# Altium schematic symbol library Inductor.SchLib: 59 symbols
Pins are listed as number, name and electrical type; pins without a type are passive.

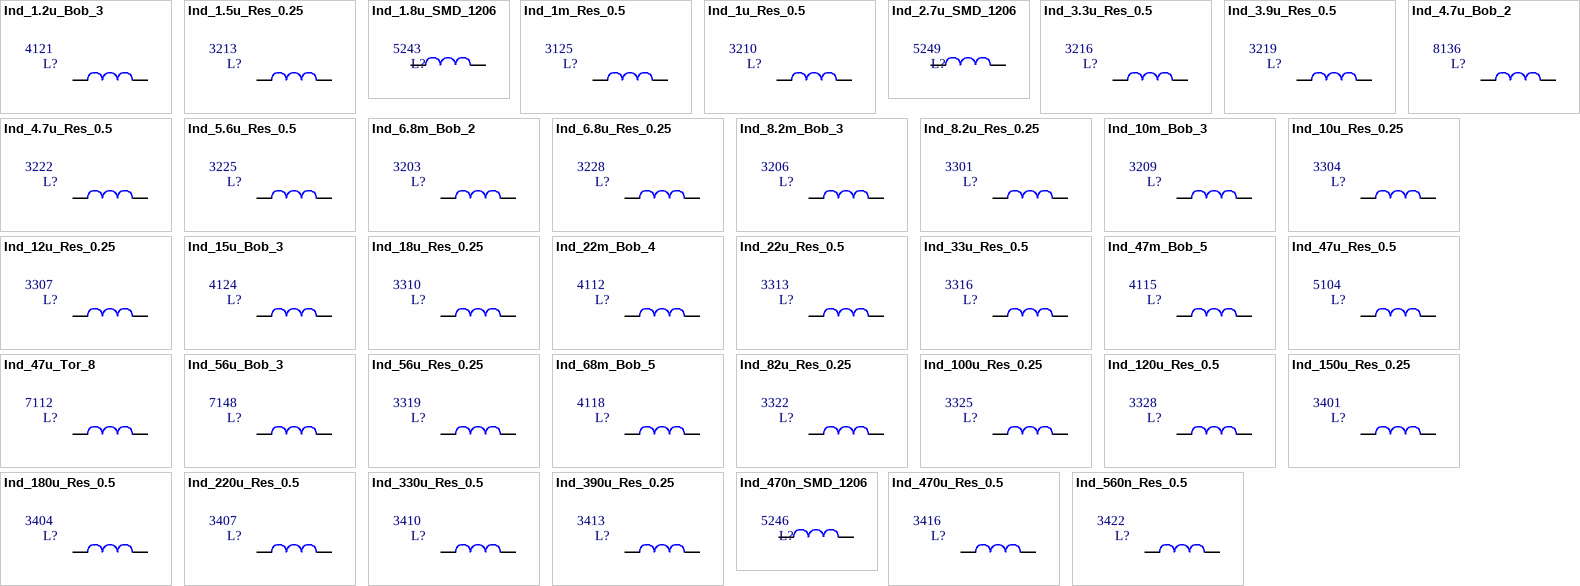
[diagram p0: symbols Ind_1.2u_Bob_3 to Ind_560n_Res_0.5]

## Ind_1.2u_Bob_3
designator L?, comment Inflow: 4121  (hidden comment: 1.2u'H, 3'A)
Inductor; Rating: Rating?; Type: Type?; Validation: NT; Value: 1.2u'H, 3'A; Package: Package?
footprint Inductor 10x12 (200 mils) (POWER INDUCTOR 10x12 (200 mils) DESIGNER ABBAS BASEREH)
pins: 1, 2

## Ind_1.5u_Res_0.25
designator L?, comment Inflow: 3213  (hidden comment: 1.5u'H, 0.25'A)
Inductor; Rating: Rating?; Type: Type?; Validation: NT; Value: 1.5u'H, 0.25'A; Package: Package?
footprint Res-(1/4)-Stand
footprint Inductor - 10uH (1/8)
pins: 1, 2

## Ind_1.8u_SMD_1206
designator L?, comment Inflow: 5243  (hidden comment: 1.8u'H)
Inductor; Rating: Rating?; Type: Type?; Validation: Valid; Value: 1.8u'H; Package: Package?
footprint IND1206 (Chip Inductor, 2-Leads, Body 3/20x1/60mm, IPC Medium Density DESIGNER:ABBAS BASEREH)
pins: 1, 2

## Ind_1m_Res_0.5
designator L?, comment Inflow: 3125  (hidden comment: 1m'H, 0.5A)
Inductor; Rating: Rating?; Type: Type?; Validation: NT; Value: 1m'H, 0.5A; Package: Package?
footprint Res-(1/4)-Stand
footprint Inductor - 10uH (1/8)
pins: 1, 2

## Ind_1u_Res_0.5
designator L?, comment Inflow: 3210  (hidden comment: 1u'H, 0.5'A)
Inductor; Rating: Rating?; Type: Type?; Validation: NT; Value: 1u'H, 0.5'A; Package: Package?
footprint Res-(1/4)-Stand
footprint Inductor - 10uH (1/8)
pins: 1, 2

## Ind_2.7u_SMD_1206
designator L?, comment Inflow: 5249  (hidden comment: 2.7u'H)
Inductor; Rating: Rating?; Type: Type?; Validation: Valid; Value: 2.7u'H; Package: Package?
footprint IND1206 (Chip Inductor, 2-Leads, Body 3/20x1/60mm, IPC Medium Density DESIGNER:ABBAS BASEREH)
pins: 1, 2

## Ind_3.3u_Res_0.5
designator L?, comment Inflow: 3216  (hidden comment: 3.3u'H, 0.5'A)
Inductor; Rating: Rating?; Type: Type?; Validation: NT; Value: 3.3u'H, 0.5'A; Package: Package?
footprint Res-(1/4)-Stand
footprint Inductor - 10uH (1/8)
pins: 1, 2

## Ind_3.9u_Res_0.5
designator L?, comment Inflow: 3219  (hidden comment: 3.9u'H, 0.5'A)
Inductor; Rating: Rating?; Type: Type?; Validation: NT; Value: 3.9u'H, 0.5'A; Package: Package?
footprint Res-(1/4)-Stand
footprint Inductor - 10uH (1/8)
pins: 1, 2

## Ind_4.7u_Bob_2
designator L?, comment Inflow: 8136  (hidden comment: 4.7u'H, 2'A)
Inductor; Rating: Rating?; Type: Type?; Validation: NT; Value: 4.7u'H, 2'A; Package: Package?
footprint Inductor 10x12 (200 mils) (POWER INDUCTOR 10x12 (200 mils) DESIGNER ABBAS BASEREH)
pins: 1, 2

## Ind_4.7u_Res_0.5
designator L?, comment Inflow: 3222  (hidden comment: 4.7u'H, 0.5'A)
Inductor; Rating: Rating?; Type: Type?; Validation: NT; Value: 4.7u'H, 0.5'A; Package: Package?
footprint Res-(1/4)-Stand
footprint Inductor - 10uH (1/8)
pins: 1, 2

## Ind_5.6u_Res_0.5
designator L?, comment Inflow: 3225  (hidden comment: 5.6u'H, 0.5'A)
Inductor; Rating: Rating?; Type: Type?; Validation: NT; Value: 5.6u'H, 0.5'A; Package: Package?
footprint Res-(1/4)-Stand
footprint Inductor - 10uH (1/8)
pins: 1, 2

## Ind_6.8m_Bob_2
designator L?, comment Inflow: 3203  (hidden comment: 6.8m'H, 2'A)
Inductor; Rating: Rating?; Type: Type?; Validation: NT; Value: 6.8m'H, 2'A; Package: Package?
footprint L'' (4.38 paye, 7.38mm qotr)
pins: 1, 2

## Ind_6.8u_Res_0.25
designator L?, comment Inflow: 3228  (hidden comment: 6.8u'H, 0.25'A)
Inductor; Rating: Rating?; Type: Type?; Validation: NT; Value: 6.8u'H, 0.25'A; Package: Package?
footprint Res-(1/4)-Stand
footprint Inductor - 10uH (1/8)
pins: 1, 2

## Ind_8.2m_Bob_3
designator L?, comment Inflow: 3206  (hidden comment: 8.2m'H, 3'A)
Inductor; Rating: Rating?; Type: Type?; Validation: NT; Value: 8.2m'H, 3'A; Package: Package?
footprint Inductor 10x12 (200 mils) (POWER INDUCTOR 10x12 (200 mils) DESIGNER ABBAS BASEREH)
pins: 1, 2

## Ind_8.2u_Res_0.25
designator L?, comment Inflow: 3301  (hidden comment: 8.2u'H, 0.25'A)
Inductor; Rating: Rating?; Type: Type?; Validation: NT; Value: 8.2u'H, 0.25'A; Package: Package?
footprint Res-(1/4)-Stand
footprint Inductor - 10uH (1/8)
pins: 1, 2

## Ind_10m_Bob_3
designator L?, comment Inflow: 3209  (hidden comment: 10m'H, 3'A)
Inductor; Rating: Rating?; Type: Type?; Validation: NT; Value: 10m'H, 3'A; Package: Package?
footprint Inductor 10x12 (200 mils) (POWER INDUCTOR 10x12 (200 mils) DESIGNER ABBAS BASEREH)
pins: 1, 2

## Ind_10u_Res_0.25
designator L?, comment Inflow: 3304  (hidden comment: 10u'H, 0.25'A)
Inductor; Rating: Rating?; Type: Type?; Validation: NT; Value: 10u'H, 0.25'A; Package: Package?
footprint Res-(1/4)-Stand
footprint Inductor - 10uH (1/8)
pins: 1, 2

## Ind_12u_Res_0.25
designator L?, comment Inflow: 3307  (hidden comment: 12u'H, 0.25'A)
Inductor; Rating: Rating?; Type: Type?; Validation: NT; Value: 12u'H, 0.25'A; Package: Package?
footprint Res-(1/4)-Stand
footprint Inductor - 10uH (1/8)
pins: 1, 2

## Ind_15u_Bob_3
designator L?, comment Inflow: 4124  (hidden comment: 15u'H, 3'A)
Inductor; Rating: Rating?; Type: Type?; Validation: NT; Value: 15u'H, 3'A; Package: Package?
footprint Inductor 10x12 (200 mils) (POWER INDUCTOR 10x12 (200 mils) DESIGNER ABBAS BASEREH)
pins: 1, 2

## Ind_18u_Res_0.25
designator L?, comment Inflow: 3310  (hidden comment: 18u'H, 0.25'A)
Inductor; Rating: Rating?; Type: Type?; Validation: NT; Value: 18u'H, 0.25'A; Package: Package?
footprint Res-(1/4)-Stand
footprint Inductor - 10uH (1/8)
pins: 1, 2

## Ind_22m_Bob_4
designator L?, comment Inflow: 4112  (hidden comment: 22m'H, 4'A)
Inductor; Rating: Rating?; Type: Type?; Validation: NT; Value: 22m'H, 4'A; Package: Package?
footprint Inductor 10x12 (200 mils) (POWER INDUCTOR 10x12 (200 mils) DESIGNER ABBAS BASEREH)
pins: 1, 2

## Ind_22u_Res_0.5
designator L?, comment Inflow: 3313  (hidden comment: 22u'H, 0.5'A)
Inductor; Rating: Rating?; Type: Type?; Validation: NT; Value: 22u'H, 0.5'A; Package: Package?
footprint Res-(1/4)-Stand
footprint Inductor - 10uH (1/8)
pins: 1, 2

## Ind_33u_Res_0.5
designator L?, comment Inflow: 3316  (hidden comment: 33u'H, 0.5'A)
Inductor; Rating: Rating?; Type: Type?; Validation: NT; Value: 33u'H, 0.5'A; Package: Package?
footprint Res-(1/4)-Stand
footprint Inductor - 10uH (1/8)
pins: 1, 2

## Ind_47m_Bob_5
designator L?, comment Inflow: 4115  (hidden comment: 47m'H, 5'A)
Inductor; Rating: Rating?; Type: Type?; Validation: NT; Value: 47m'H, 5'A; Package: Package?
footprint Inductor 10x12 (200 mils) (POWER INDUCTOR 10x12 (200 mils) DESIGNER ABBAS BASEREH)
pins: 1, 2

## Ind_47u_Res_0.5
designator L?, comment Inflow: 5104  (hidden comment: 47u'H, 0.5'A)
Inductor; Rating: Rating?; Type: Type?; Validation: NT; Value: 47u'H, 0.5'A; Package: Package?
footprint Res-(1/4)-Stand
footprint Inductor - 10uH (1/8)
pins: 1, 2

## Ind_47u_Tor_8
designator L?, comment Inflow: 7112  (hidden comment: 47u'H, 8'A)
Inductor; Rating: Rating?; Type: Type?; Validation: NT; Value: 47u'H, 8'A; Package: Package?
footprint Inductor iron
pins: 1, 2

## Ind_56u_Bob_3
designator L?, comment Inflow: 7148  (hidden comment: 56u'H, 3'A)
Inductor; Rating: Rating?; Type: Type?; Validation: NT; Value: 56u'H, 3'A; Package: Package?
footprint Inductor 10x12 (200 mils) (POWER INDUCTOR 10x12 (200 mils) DESIGNER ABBAS BASEREH)
pins: 1, 2

## Ind_56u_Res_0.25
designator L?, comment Inflow: 3319  (hidden comment: 56u'H, 0.25'A)
Inductor; Rating: Rating?; Type: Type?; Validation: NT; Value: 56u'H, 0.25'A; Package: Package?
footprint Res-(1/4)-Stand
footprint Inductor - 10uH (1/8)
pins: 1, 2

## Ind_68m_Bob_5
designator L?, comment Inflow: 4118  (hidden comment: 68m'H, 5'A)
Inductor; Rating: Rating?; Type: Type?; Validation: NT; Value: 68m'H, 5'A; Package: Package?
footprint Inductor 10x12 (200 mils) (POWER INDUCTOR 10x12 (200 mils) DESIGNER ABBAS BASEREH)
pins: 1, 2

## Ind_82u_Res_0.25
designator L?, comment Inflow: 3322  (hidden comment: 82u'H, 0.25'A)
Inductor; Rating: Rating?; Type: Type?; Validation: NT; Value: 82u'H, 0.25'A; Package: Package?
footprint Res-(1/4)-Stand
footprint Inductor - 10uH (1/8)
pins: 1, 2

## Ind_100u_Res_0.25
designator L?, comment Inflow: 3325  (hidden comment: 100u'H, 0.25'A)
Inductor; Rating: Rating?; Type: Type?; Validation: NT; Value: 100u'H, 0.25'A; Package: Package?
footprint Res-(1/4)-Stand
footprint Inductor - 10uH (1/8)
pins: 1, 2

## Ind_120u_Res_0.5
designator L?, comment Inflow: 3328  (hidden comment: 120u'H, 0.5'A)
Inductor; Rating: Rating?; Type: Type?; Validation: NT; Value: 120u'H, 0.5'A; Package: Package?
footprint Res-(1/4)-Stand
footprint Inductor - 10uH (1/8)
pins: 1, 2

## Ind_150u_Res_0.25
designator L?, comment Inflow: 3401  (hidden comment: 150u'H, 0.25'A)
Inductor; Rating: Rating?; Type: Type?; Validation: NT; Value: 150u'H, 0.25'A; Package: Package?
footprint Res-(1/4)-Stand
footprint Inductor - 10uH (1/8)
pins: 1, 2

## Ind_180u_Res_0.5
designator L?, comment Inflow: 3404  (hidden comment: 180u'H, 0.5'A)
Inductor; Rating: Rating?; Type: Type?; Validation: NT; Value: 180u'H, 0.5'A; Package: Package?
footprint Res-(1/4)-Stand
footprint Inductor - 10uH (1/8)
pins: 1, 2

## Ind_220u_Res_0.5
designator L?, comment Inflow: 3407  (hidden comment: 220u'H, 0.5'A)
Inductor; Rating: Rating?; Type: Type?; Validation: NT; Value: 220u'H, 0.5'A; Package: Package?
footprint Res-(1/4)-Stand
footprint Inductor - 10uH (1/8)
pins: 1, 2

## Ind_330u_Res_0.5
designator L?, comment Inflow: 3410  (hidden comment: 330u'H, 0.5'A)
Inductor; Rating: Rating?; Type: Type?; Validation: NT; Value: 330u'H, 0.5'A; Package: Package?
footprint Res-(1/4)-Stand
footprint Inductor - 10uH (1/8)
pins: 1, 2

## Ind_390u_Res_0.25
designator L?, comment Inflow: 3413  (hidden comment: 390u'H, 0.25'A)
Inductor; Rating: Rating?; Type: Type?; Validation: NT; Value: 390u'H, 0.25'A; Package: Package?
footprint Res-(1/4)-Stand
footprint Inductor - 10uH (1/8)
pins: 1, 2

## Ind_470n_SMD_1206
designator L?, comment Inflow: 5246  (hidden comment: 470n'H)
Inductor; Rating: Rating?; Type: Type?; Validation: Valid; Value: 470n'H; Package: Package?
footprint IND1206 (Chip Inductor, 2-Leads, Body 3/20x1/60mm, IPC Medium Density DESIGNER:ABBAS BASEREH)
pins: 1, 2

## Ind_470u_Res_0.5
designator L?, comment Inflow: 3416  (hidden comment: 470u'H, 0.5'A)
Inductor; Rating: Rating?; Type: Type?; Validation: NT; Value: 470u'H, 0.5'A; Package: Package?
footprint Res-(1/4)-Stand
footprint Inductor - 10uH (1/8)
pins: 1, 2

## Ind_560n_Res_0.5
designator L?, comment Inflow: 3422  (hidden comment: 560n'H, 0.25'A)
Inductor; Rating: Rating?; Type: Type?; Validation: NT; Value: 560n'H, 0.25'A; Package: Package?
footprint Res-(1/4)-Stand
footprint Inductor - 10uH (1/8)
pins: 1, 2

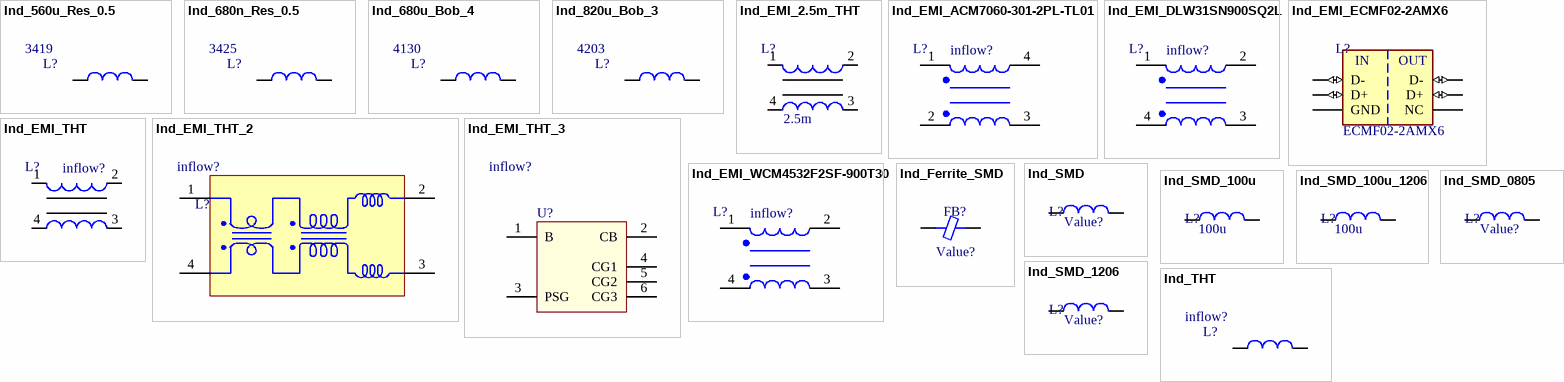
[diagram p1: symbols Ind_560u_Res_0.5 to Ind_THT]

## Ind_560u_Res_0.5
designator L?, comment Inflow: 3419  (hidden comment: 560u'H, 0.5'A)
Inductor; Rating: Rating?; Type: Type?; Validation: NT; Value: 560u'H, 0.5'A; Package: Package?
footprint Res-(1/4)-Stand
footprint Inductor - 10uH (1/8)
pins: 1, 2

## Ind_680n_Res_0.5
designator L?, comment Inflow: 3425  (hidden comment: 680n'H, 0.5'A)
Inductor; Rating: Rating?; Type: Type?; Validation: NT; Value: 680n'H, 0.5'A; Package: Package?
footprint Res-(1/4)-Stand
footprint Inductor - 10uH (1/8)
pins: 1, 2

## Ind_680u_Bob_4
designator L?, comment Inflow: 4130  (hidden comment: 680u'H, 4'A)
Inductor; Rating: Rating?; Type: Type?; Validation: NT; Value: 680u'H, 4'A; Package: Package?
footprint Inductor 10x12 (200 mils) (POWER INDUCTOR 10x12 (200 mils) DESIGNER ABBAS BASEREH)
pins: 1, 2

## Ind_820u_Bob_3
designator L?, comment Inflow: 4203  (hidden comment: 820u'H, 3'A)
Inductor; Rating: Rating?; Type: Type?; Validation: NT; Value: 820u'H, 3'A; Package: Package?
footprint Inductor 10x12 (200 mils) (POWER INDUCTOR 10x12 (200 mils) DESIGNER ABBAS BASEREH)
pins: 1, 2

## Ind_EMI_2.5m_THT
designator L?, comment 2.5m
THT Common Mode Power Line Choke WE-FC; Inflow: 7107; Type: EMI; Rating: 2A; Validation: Valid; Package: Dip; Value: 2.5m
footprint WE-FC-UT (THT Inductor, 4-Leads, Body 21.2x16.6x22.5 mm)
pins: 1, 2, 3, 4

## Ind_EMI_ACM7060-301-2PL-TL01
designator L?, comment Inflow: inflow?  (hidden comment: 600nH)
Common Mode Chokes / Filters 300Ω 100MHz 5A 70mm x 60mm; Rating: 300Ω; Type: Filter; Validation: Valid; Value: 600nH; Package: 2824
footprint ACM7060-301-2PL-TL01
footprint ACM7060-301-2PL-TL01 - extended
pins: 1, 2, 3, 4

## Ind_EMI_DLW31SN900SQ2L
designator L?, comment Inflow: inflow?  (hidden comment: 143nH)
2 Line Common Mode Choke Surface Mount 90 Ohms @ 100 MHz 370mA DCR 300mOhm; Rating: 90Ω; Type: Filter; Validation: Valid; Value: 143nH; Package: Package?
footprint FIL_DLW31SN900SQ2L
footprint FIL_DLW31SN900SQ2L_Extended
pins: 1, 2, 3, 4

## Ind_EMI_ECMF02-2AMX6
designator L?, comment ECMF02-2AMX6
Common Mode Filter with ESD Protection for USB 2.0 and MIPI D-PHY/MDDI Interface; Rating: 2.5R; Type: EMI Filters; Validation: NT; Package: QFN-6; Value: ECMF02-2AMX6
footprint SON50P150X170X55-6N
pins: 1 D+ (io), 2 D- (io), 3 GND (power), 4 NC, 5 D- (io), 6 D+ (io)
text: IN; OUT

## Ind_EMI_THT
designator L?  Inflow: inflow?
THT Common Mode Power Line Choke WE-FC; Value: Value?; Rating: Rating?; Type: Type?; Validation: Valid; Package: Package?
footprint WE-FC-UT (THT Inductor, 4-Leads, Body 21.2x16.6x22.5 mm)
pins: 1, 2, 3, 4

## Ind_EMI_THT_2
designator L?, comment Inflow: inflow?  (hidden comment: Value?)
EMI Suppression Filter (EMIFIL) for AC Power Lines; Rating: Rating?; Type: Type?; Validation: NT; Value: Value?; Package: Package?
footprint PLY17 (Footprint not found)
pins: 1, 2, 3, 4

## Ind_EMI_THT_3
designator U?, comment Inflow: inflow?  (hidden comment: Value?)
EMI LEADED FILTERS, EMI SUPPRESSION FILTERS, BLOCK FILTERS; Rating: Rating?; Validation: NT; Value: Value?; Package: Package?; Type: Type?
footprint BNX_EMI_FILTER (Murata Co.)
pins: 1 B, 2 CB, 3 PSG, 4 CG1, 5 CG2, 6 CG3

## Ind_EMI_WCM4532F2SF-900T30
designator L?, comment Inflow: inflow?  (hidden comment: 143nH)
2 Line Common Mode Choke Surface Mount 90 Ohms @ 100 MHz 370mA DCR 300mOhm; Rating: 90Ω; Type: Filter; Validation: Valid; Value: 143nH; Package: 4.5x3.2x2.8mm
footprint WCM4532F2SF-900T30
footprint WCM4532F2SF-900T30 - extended
pins: 1, 2, 3, 4

## Ind_Ferrite_SMD
designator FB?, comment Value?
SMT Ferrite Chip; Inflow: inflow?; Type: Type?; Rating: Rating?; Validation: Valid; Package: Package?; Value: Value?
footprint FER 0201/0603 (Chip Inductor, 2-Leads, Body 0.60x0.30mm, IPC Medium Density)
footprint FER 0402/1005 (Chip Ferrite, 2-Leads, Body 1.02x0.51mm, IPC Medium Density)
footprint FER 0603/1608 (Chip Ferrite, 2-Leads, Body 1.60x0.80mm, IPC Medium Density)
footprint FER 0805/2012 (Chip Ferrite, 2-Leads, Body 2.00x1.20mm, IPC Medium Density)
footprint FER 1206/3216 (Chip Ferrite, 2-Leads)
pins: 1, 2

## Ind_SMD
designator L?, comment Value?
Inductor; Inflow: inflow?; Type: Type?; Rating: Rating?; Validation: Valid; Package: Package?; Value: Value?
footprint INDC1608L (Chip Inductor, Body 1.6x0.8mm, IPC High Density)
footprint INDC3216 (Chip Inductor, Body 3.2x1.6mm, IPC High Density)
footprint INDC4532 (Chip Inductor, Body 4.5x3.2mm, IPC High Density)
footprint INDM3225X240N (Molded Inductor, 2-Leads, Body 3.2x2.5mm, IPC Medium Density)
footprint INDM3225X240N (Molded Inductor, 2-Leads, Body 3.2x2.5mm, IPC Medium Density)
footprint Inductor SMD 3x3.2mm (Inductor 4.7µH SMD 3x3.2mm)
footprint IND0201 (Chip Inductor, 2-Leads, Body 0/60x0/30mm, IPC Medium Density DESIGNER:ABBAS BASEREH)
footprint IND0402 (Chip Inductor, 2-Leads, Body 1/00x0/50mm, IPC Medium Density DESIGNER:ABBAS BASEREH)
footprint IND0603 (Chip Inductor, 2-Leads, Body 1/60x0/80mm, IPC Medium Density DESIGNER:ABBAS BASEREH)
footprint IND1206 (Chip Inductor, 2-Leads, Body 3/20x1/60mm, IPC Medium Density DESIGNER:ABBAS BASEREH)
footprint IND1210 (Chip Inductor, 2-Leads, Body 3/20x2/50mm, IPC Medium Density DESIGNER:ABBAS BASEREH)
footprint IND1812 (Chip Inductor, 2-Leads, Body 4/50x3/20mm, IPC Medium Density DESIGNER:ABBAS BASEREH)
footprint IND2512 (Chip Inductor, 2-Leads, Body 6/40x3/20mm, IPC Medium Density DESIGNER:ABBAS BASEREH)
footprint IND0805 (Chip Inductor, 2-Leads, Body 2/00x1/25mm, IPC Medium Density DESIGNER:ABBAS BASEREH)
footprint 2520L_1008LS (Inductor)
footprint IHLP2525CZ (Vishay IHLP2525CZ SMT Inductor,6.86x6.86x3mm)
footprint IHLP4040DZ (Vishay HLP4040 SMT Inductor,11.5x11.5x4mm)
footprint 0201_L (Inductor)
footprint 0402_L (Inductor)
footprint 0603_L (Inductor)
footprint 0805_L (Inductor)
footprint 1206_L (Inductor)
footprint 1812_L (Inductor)
footprint 2512_L (Inductor)
footprint 1812_L (Inductor)
footprint 2520_L
footprint LPO3310 (LPO3310 SMT Power Inductor, 3.3x3.3x1mm)
footprint L_125X125X75 (Footprint Recommanded For TDK)
footprint SMT_L_3.0mm (SMT Power Inductor, 3.0x3.0x1mm)
footprint SMT_L_7.32mm (Power Inductor, 7.32x7.32x4mm)
footprint SRN3015 (SRN3015 Series - Semi-shielded Power Inductors)
footprint SRN4026 (SRN4026 Series - Semi-shielded Power Inductors)
footprint VLCF5020-2 (Inductor for Power Circuits)
footprint VLCF5020-1 (Inductor for Power Circuits)
footprint L_2 (INDUCTOR, 2.0X2.0mm)
footprint L_3 (INDUCTOR, 3.0X3.2mm, VLS3012)
footprint L_4 (INDUCTOR, 3.8x3.8mm, 3.7x3.5mm, WURTH 744031470)
footprint L_5 (INDUCTOR, 5.0X5.0mm)
footprint L_6 (INDUCTOR, 6.0X6.0mm, SRP6030, XAL6030)
footprint L_7 (INDUCTOR, 7.2X6.9mm, 7.1X6.5mm, SPM6530)
footprint L_8 (INDUCTOR, 7.5X7.5mm, 8x8, DR74)
footprint L_10 (INDUCTOR, 10.5X11.5mm, CDRH104R, MSS1038 (coilcraft))
footprint L_12 (INDUCTOR, 13.5x12.5mm, DR125, CDRH127, D128C 931AS)
footprint L_3_CDRH2D16 (INDUCTOR, 3.0X3.2mm, CDRH2D16)
footprint L_4_CDR4H28 (INDUCTOR, 4X4X2.8mm, CDR4H28)
footprint L_4_H2 (INDUCTOR, 4.1X4.1X2.1mm, VLCF4020)
footprint L_4_H3_A (INDUCTOR, 4X4X2.8mm)
footprint L_5_H2 (INDUCTOR, 5.0X5.0X2mm)
footprint L_5A (INDUCTOR, 5.0X5.0mm)
footprint L_7X5 (INDUCTOR, 6.6X4.4X3mm, SDE6603)
footprint L_7X6 (Precision Wire Wound Inductor, 2-Leads, Body 7.5x6.5x3mm, IPC Medium Density)
footprint L_9X8 (INDUCTOR, 9X7.7X1.6mm 2700 SERIES MURATA)
footprint L_10A (INDUCTOR, 10.5X11.5mm, CDRH104R, MSS1038 (coilcraft))
footprint L_11X7 (INDUCTOR, 7.5X10.8X7.2mm, SLC1175)
footprint L_13X10 (INDUCTOR, 13X9.5mm, 12.7X10mm)
footprint L_14 (INDUCTOR, 13.5x12.5mm, DR125, CDRH127, D128C 931AS)
footprint L_18X15 (INDUCTOR, 18.5X15.24mm)
footprint L_CDRH2 (CDRH2D18, 3.2x3.2x2.0mm)
footprint L_CDRH5 (INDUCTOR, 6X6X2mm, CDRH5D18)
footprint L_XAL1010 (Inductor, XAL1010, 10.50x11.3x10mm)
footprint L_XAL1030 (Inductor, XAL1030, 10.50x11.3x3.1mm)
footprint L_XAL1060 (Inductor, XAL1060, 10.50x11.3x6.0mm)
footprint L_XAL1350 (Inductor, XAL1350, 13x14x5mm)
footprint L_XAL1510 (Inductor, XAL1510, 15.2x16.2x11mm)
footprint L_XAL1513 (Inductor, XAL1513, 15.2x16.2x13mm)
footprint L_XAL1580 (Inductor, XAL1580, 15.2x16.2x8.2mm)
footprint L_XAL4014 (Inductor, XAL4014, 4.0x4.0x1.4mm)
footprint L_XAL4020 (Inductor, XAL4020, 4.0x4.0x2.1mm)
footprint L_XAL4030 (Inductor, XAL4030, 4.0x4.0x3.1mm)
footprint L_XAL4040 (Inductor, XAL4030, 4.0x4.0x4.1mm)
footprint L_XAL5020 (Inductor, XAL5020, 5.3x5.5x2.0mm)
footprint L_XAL5030 (Inductor, XAL5030, 5.3x5.5x3.1mm)
footprint L_XAL5050 (Inductor, XAL5050, 5.3x5.5x5.1mm)
footprint L_XAL6020 (Inductor, XAL6020, 6.36x6.56x2.1mm)
footprint L_XAL6030 (Inductor, XAL6030, 6.36x6.56x3.1mm)
footprint L_XAL6060 (Inductor, XAL6060, 6.36x6.56x6.1mm)
footprint L_XAL7020 (Inductor, XAL7020, 7.5x7.5x2.1mm)
footprint L_XAL7030 (Inductor, XAL7030, 7.5x7.5x3.1mm)
footprint L_XAL7070 (Inductor, XAL7070, 7.5x7.5x7.0mm)
footprint L_XAL8080 (Inductor, XAL8080, 8.1x8.6x8mm)
pins: 1, 2

## Ind_SMD_100u
designator L?, comment 100u
Inductor; Inflow: inflow?; Type: Power; Rating: Rating?; Validation: Valid; Package: 13.5x12.5; Value: 100u
footprint L_12 (INDUCTOR, 13.5x12.5mm, DR125, CDRH127, D128C 931AS)
pins: 1, 2

## Ind_SMD_100u_1206
designator L?, comment 100u
Inductor; Inflow: inflow?; Type: SMD; Rating: Rating?; Validation: Valid; Package: 1206; Value: 100u
footprint IND1206 (Chip Inductor, 2-Leads, Body 3/20x1/60mm, IPC Medium Density DESIGNER:ABBAS BASEREH)
footprint IND0805 (Chip Inductor, 2-Leads, Body 2/00x1/25mm, IPC Medium Density DESIGNER:ABBAS BASEREH)
pins: 1, 2

## Ind_SMD_0805
designator L?, comment Value?
Inductor; Inflow: inflow?; Type: SMD; Rating: Rating?; Validation: Valid; Package: 0805; Value: Value?
footprint IND0805 (Chip Inductor, 2-Leads, Body 2/00x1/25mm, IPC Medium Density DESIGNER:ABBAS BASEREH)
pins: 1, 2

## Ind_SMD_1206
designator L?, comment Value?
Inductor; Inflow: inflow?; Type: SMD; Rating: Rating?; Validation: Valid; Package: 1206; Value: Value?
footprint IND1206 (Chip Inductor, 2-Leads, Body 3/20x1/60mm, IPC Medium Density DESIGNER:ABBAS BASEREH)
footprint IND0805 (Chip Inductor, 2-Leads, Body 2/00x1/25mm, IPC Medium Density DESIGNER:ABBAS BASEREH)
pins: 1, 2

## Ind_THT
designator L?, comment Inflow: inflow?  (hidden comment: Value?)
Inductor; Rating: Rating?; Type: Type?; Validation: NT; Value: Value?; Package: Package?
footprint RES 1
footprint L' (2.54 paye, 6mm qotr)
footprint L'' (4.38 paye, 7.38mm qotr)
footprint L'''
footprint Inductor 10x12 (200 mils) (POWER INDUCTOR 10x12 (200 mils) DESIGNER ABBAS BASEREH)
footprint Res-(1/4)-Stand
footprint Inductor - 10uH (1/8)
pins: 1, 2